# EAGLE library part FT200XD (library Synapseware-transistors)
USB I2C SLAVE IC
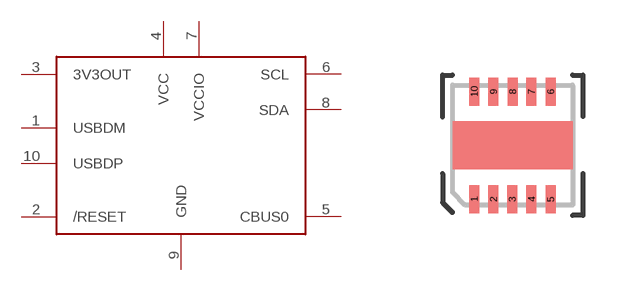
[diagram p22: symbol with the pads of DFN-10; footprint DFN-10]

Designator prefix -

## FT200XD  [DFN-10]
1  USBDM
2  /RESET
3  3V3OUT
4  VCC
5  CBUS0
6  SCL
7  VCCIO
8  SDA
9  GND
10  USBDP

## Footprint DFN-10 (pad centres in mm)
3mm x 3mm DFN-10 pin package
smd 0.25 x 0.7: 1 0.54,-2.85; 2 1.02,-2.85; 3 1.49,-2.85; 4 1.97,-2.85; 5 2.45,-2.85; 6 2.45,-0.16; 7 1.97,-0.16; 8 1.5,-0.16; 9 1.02,-0.16; 10 0.54,-0.16